# Altium footprint library 叠加式文件柜V04.PcbLib: 39 footprints (part 3 of 3)
Each footprint in its own frame and in the unit in brackets; x right, y up, seen from the top. Pads: shape width x height; smd on the part's side, far side on the other; paste and mask are expansions set on the pad; w line width, h text height; cw(c..) or ccw(c..) is an arc to the next point about the centre after c.
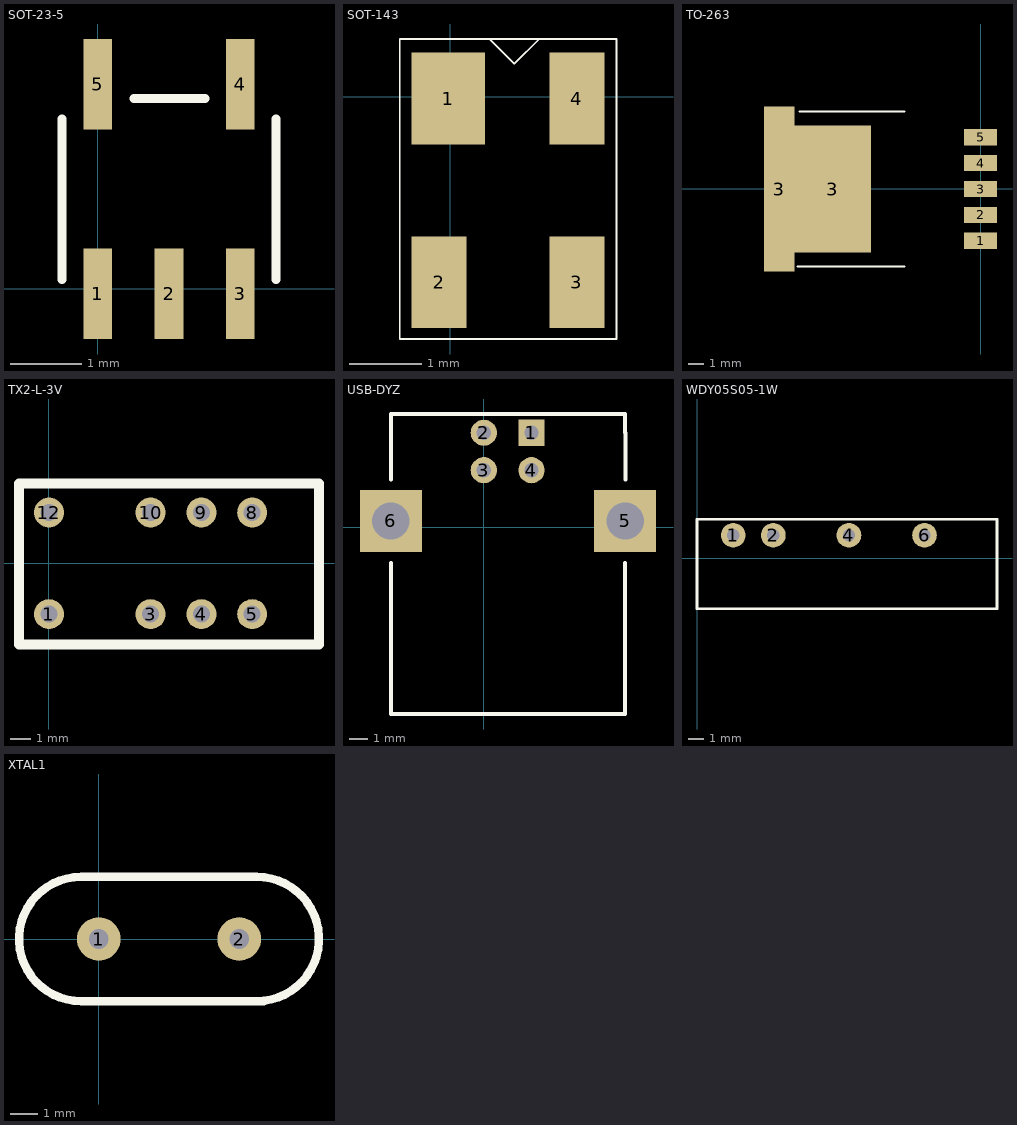
[diagram p2: the footprints below, top view; thin cyan lines are the x and y axes]

## SOT-23-5 [mm]
height 1.5
pads (5):
  rect 0.4x1.27 smd: 1(0,-0.073) 2(1,-0.073) 3(2,-0.073) 4(2,2.867) 5(0,2.867)
Top Overlay:
  lines w0.127: -0.5,0.127 -0.5,2.377 ; 0.508,2.667 1.508,2.667 ; 2.5,0.127 2.5,2.377

## SOT-143 [mil]
height 19.68
pads (4):
  rect 40x50 smd: 1(-1.09,-0.96)
  rect 30x50 smd: 2(-6.09,-100.96) 3(68.91,-100.96) 4(68.91,-0.96)
Top Overlay:
  lines w1: 21.55,31.4 34.91,18.04 48.3,31.42 ; -27.56,-131.89 90.55,-131.89 90.55,31.5 -27.56,31.5 -27.56,-131.89

## TO-263 [mm]
height 1.5
pads (7):
  rect 2.16x1.07 smd: 1(-0.025,-3.404) 2(-0.025,-1.704) 3(-0.025,-0.004) 4(-0.025,1.696) 5(-0.025,3.396)
  rect 2x10.8 smd: 3(-13.195,-0.004)
  rect 5x8.3 smd: 3(-9.695,-0.004)
Top Overlay:
  lines w0.127: -12.014,-5.08 -5,-5.08 ; -11.887,5.08 -5,5.08

## TX2-L-3V [mm]
pads (8):
  round 1.5 hole 0.85: 1(0,-2.54) 3(5.08,-2.54) 4(7.62,-2.54) 5(10.16,-2.54) 8(10.16,2.54) 9(7.62,2.54) 10(5.08,2.54) 12(0,2.54)
Top Overlay:
  lines w0.508: -1.5,-4.064 13.5,-4.064 13.5,4 -1.5,4 -1.5,-4.064

## USB-DYZ [mil]
height 393.7
pads (6):
  rect 55x55 hole 30: 1(100.28,198.85)
  round 55 hole 30: 2(0.28,198.86) 3(0.28,120.12) 4(100.28,120.12)
  rect 129.92x129.92 hole 78.74: 5(297.13,13.42) 6(-195,13.42)
Top Overlay:
  lines w7.87: -195,-392.09 297.13,-392.09 ; -195,-392.01 -195,-74.8 ; -195,100.43 -195,198.86 -195,238.23 -175.31,238.23 -155.63,238.23 297.13,238.23 297.13,198.86 ; 297.13,-387.99 297.13,-74.8 ; 297.99,100 297.99,198.42

## WDY05S05-1W [mm]
height 1.5
pads (4):
  round 1.6 hole 0.8: 1(2.35,1.5) 2(4.95,1.5) 4(9.85,1.5) 6(14.75,1.5)
Top Overlay:
  lines w0.178: 0,-3.26 19.45,-3.26 19.45,2.54 0,2.54 0,-3.26

## XTAL1 [mil]
height 118.11
pads (2):
  round 62 hole 28: 1(0,0) 2(200,0)
Top Overlay:
  lines w12: 225,-88.58 ccw(c225,0) 225,88.58 -25,88.58 ccw(c-25,0) -25,-88.58 235,-88.58